# Altium footprint library Diodes.PcbLib: 1 footprints
Each footprint in its own frame and in the unit in brackets; x right, y up, seen from the top. Pads: shape width x height; smd on the part's side, far side on the other; paste and mask are expansions set on the pad; w line width, h text height; cw(c..) or ccw(c..) is an arc to the next point about the centre after c.
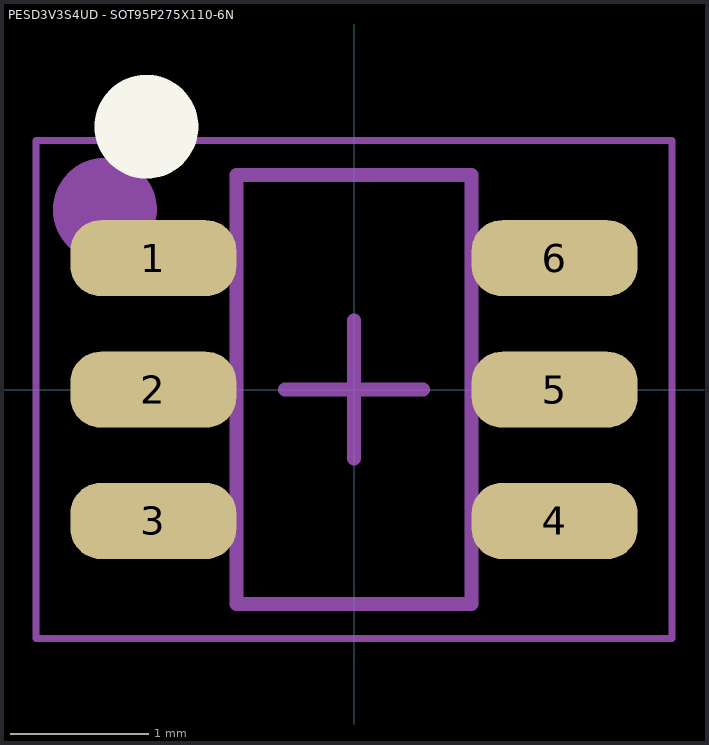
[diagram p0: the footprint, top view; thin cyan lines are the x and y axes]

## PESD3V3S4UD - SOT95P275X110-6N [mm] "SOT23, 6-Leads, Body 2.90x2.75mm, Pitch 0.95mm, IPC Medium Density"
height 1.1
pads (6):
  rrect80% 1.2x0.55 smd paste-0.045 mask+0.085: 1(-1.45,0.95) 2(-1.45,0) 3(-1.45,-0.95) 4(1.45,-0.95) 5(1.45,0) 6(1.45,0.95)
Top Overlay:
  circle w0.5: c-1.5,1.9 r0.125
Mechanical 13:
  lines w0.1: -0.85,-1.55 0.85,-1.55 0.85,1.55 -0.85,1.55 -0.85,-1.55
Mechanical 15:
  lines w0.05: -2.3,-1.8 2.3,-1.8 2.3,1.8 -2.3,1.8 -2.3,-1.8
  lines w0.1: -0.5,0 0.5,0 ; 0,-0.5 0,0.5
Assembly:
  circle w0.5: c-1.8,1.3 r0.125
  lines w0.05: -2.3,-1.8 -2.3,1.8 2.3,1.8 2.3,-1.8 -2.3,-1.8
  text ".Designator" at -1.9,-0.2 h0.9
3D body: height 1.1, standoff 0.05, extent -0.85,-1.55 0.85,1.55